# EAGLE library part USB6B1 (library _USBLC6-2)
DATA LINES PROTECTION (SUPPRESSOR) Source: http://www.st.com/stonline/products/literature/ds/5605.pdf
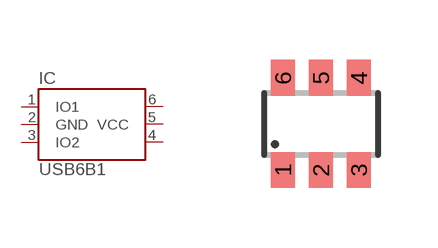
[diagram p0: symbol with the pads of SOT23-6; footprint SOT23-6]

Designator prefix IC

## USB6B1  [SOT23-6]
1  IO1
2  GND  pwr
3  IO2
4  IO2
5  VCC  pwr
6  IO1

## Footprint SOT23-6 (pad centres in mm)
Small Outline Transistor 6 lead
smd 0.6 x 0.9: 1 -0.95,-1.15; 2 0,-1.15; 3 0.95,-1.15; 4 0.95,1.15; 5 0,1.15; 6 -0.95,1.15